# EAGLE library part HEADER_1X06 (library PartsYouNeed)
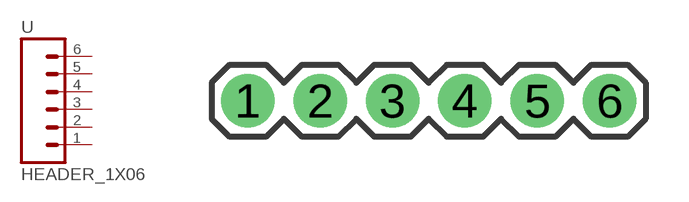
[diagram p1: symbol with the pads of 1X06; footprint 1X06]

Designator prefix -

## HEADER_1X06  [1X06]
1  1  pas
2  2  pas
3  3  pas
4  4  pas
5  5  pas
6  6  pas

## Footprint 1X06 (pad centres in mm)
drill 1.016 pad 1.88: 1 0,0; 2 2.54,0; 3 5.08,0; 4 7.62,0; 5 10.16,0; 6 12.7,0